# Altium schematic symbol library 601030.SchLib: 1 symbol
Pins are listed as number, name and electrical type; pins without a type are passive.

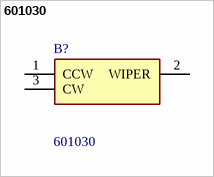
[diagram p0: symbol 601030]

## 601030
designator B?
Potentiometers Carbon Comp Flm Potentiometer; Manufacturer_Name: Kyocera AVX; Geometry.Height: 7.8mm; Mouser Part Number: 581-601030; Mouser Price/Stock: https://www.mouser.co.uk/ProductDetail/KYOCERA-AVX/601030?qs=B6kkDfuK7%2FDwxok08zuurA%3D%3D; Manufacturer_Part_Number: 601030; Datasheet Link: https://www.abelektronik.de/fileadmin/images/Produkte_und_Datenblaetter/Datenblaetter/Bauelemente/E_HA06.pdf
footprint 601030
pins: 1 CCW, 2 WIPER, 3 CW